# EAGLE library part 691241710006 (library Wurth_Connectors_WR-TBL Rising Cage Clamp)
WR-TBL Serie 2417 - 5.00 mm Horizontal Entry Modular w. Rising Cage Clamp KIND PROPERTIES Pitch 5 mm MATERIAL PROPERTIES Insulator Material PA6/66 Insulator Flammability Rating UL94 V-0 Insulator Color Green Contact Material Copper Alloy Contact Plating Nickel over Tin Terminal Screw Material Steel Terminal Screw Plating Zinc Wire Guard Material Copper Alloy GENERAL INFORMATION Operating Temperature -30 up to +120 °C Compliance Lead free / RoHS ELECTRICAL PROPERTIES IR UL 14 A IR VDE 14 A Working Voltage [UL] 300 V (AC) Working Voltage [VDE] 250 V (AC) Withstanding Voltage [UL] 1600 V (AC) Withstanding Voltage [cULus] 1600 V (AC) Withstanding Voltage [VDE] 2000 V (AC) Contact Resistance [UL] 20 mΩ Contact Resistance [cULus] 20 mΩ Contact Resistance [VDE] 20 mΩ MECHANICAL PROPERTIES Wire Strip Length 6 (mm) Screw M3 CERTIFICATION cULus Approval E150931 UL Approval E150931 CAT. N°: CIA (4) VDE Approval 40021365 VDE Approval 40021365 TYPE: CIA PACKAGING PROPERTIES Packaging Box <https://www.we-online.com/catalog/media/o58415v209%20Family_WR-TBL_5_00_2417_HORIZONTAL_CABLE_ENTRY_6912417100XX.jpg> Details see: https://www.we-online.com/catalog/en/TBL_5_00_2417_HORIZONTAL_CABLE_ENTRY_W_RISING_CLAMP_6912417100XX/ Updated by Ella Wu 2019-11-25 2019(C) Wurth Elektronik
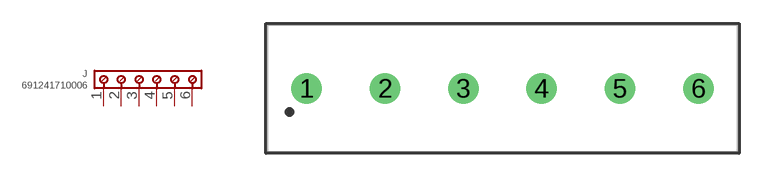
[diagram p15: symbol with the pads of 691241710006; footprint 691241710006]

Designator prefix J

## 691241710006 (DATASHEET-URL: https://www.we-online.com/redexpert/spec/691241710006?ae; IR-UL: 14A; IR-VDE: 14A; MOUNT: THT; PART-NUMBER: 691241710006; PINS: 6; PITCH: 5mm; TYPE: Horizontal; WIRE: 30 to 14 (AWG) 0.0509 to 2.08 (mm²); WORKING-VOLTAGE-UL: 300V (AC); WORKING-VOLTAGE-VDE: 250V (AC))  [691241710006]
1  1  pas
2  2  pas
3  3  pas
4  4  pas
5  5  pas
6  6  pas

## Footprint 691241710006 (pad centres in mm)
WR-TBL Serie 2417 - 5.00 mm Horizontal Entry Modular w. Rising Cage Clamp Max Height =10mm , Pitch 5mm , 6 Pins
drill 1.3: 1 -12.5,0; 2 -7.5,0; 3 -2.5,0; 4 2.5,0; 5 7.5,0; 6 12.5,0